# Altium integrated library Sunridge RF Coaxial.IntLib: 2 symbols
Pins are listed as number, name and electrical type; pins without a type are passive.

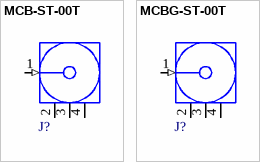
[diagram p0: symbols MCB-ST-00T to MCBG-ST-00T]

## MCB-ST-00T
designator J?
SMB Ultra Miniature Coaxial Connector, SM, Vertical Socket, 50 Ohm, 2.5/2.0mm Mated Height, Silver Plated; PCB_Layout: Complies with manufacturer's recommendation.; Published: 26-Sep-2008; DatasheetVersion: Mar-2008; PackageVersion: Mar-2008; PackageReference: MCB-ST-00T; Publisher: Altium Limited; PackageDescription: Connector; RF Coaxial, MCB SM Receptacle; 4 Position; Vertical, Body 3.1mm x 3.0 x 1.3 mm (LxWxH); ComponentLink1Description: Manufacturer Link; ComponentLink1URL: http://www.sunridgecorp.com/; ComponentLink2Description: Datasheet; ComponentLink2URL: http://www.sunridgecorp.com/pdf/MCBseries.pdf
footprint MCB-ST-00T (Connector; RF Coaxial, MCB SM; 4 Position; Vertical, Body 3.1x3.0mm (LxW))
signal-integrity model RF Coaxial
pins: 1 Signal (in) "Signal Pin", 2 GND (power), 3 GND (power), 4 GND (power)

## MCBG-ST-00T
designator J?
SMB Ultra Miniature Coaxial Connector, SM, Vertical Socket, 50 Ohm, 2.5/2.0mm Mated Height, Gold Plated; PCB_Layout: Complies with manufacturer's recommendation.; Published: 26-Sep-2008; DatasheetVersion: Mar-2008; PackageVersion: Mar-2008; PackageReference: MCB-ST-00T; Publisher: Altium Limited; PackageDescription: Connector; RF Coaxial, MCB SM Receptacle; 4 Position; Vertical, Body 3.1mm x 3.0 x 1.3 mm (LxWxH); ComponentLink1Description: Manufacturer Link; ComponentLink1URL: http://www.sunridgecorp.com/; ComponentLink2Description: Datasheet; ComponentLink2URL: http://www.sunridgecorp.com/pdf/MCBseries.pdf
footprint MCB-ST-00T (Connector; RF Coaxial, MCB SM; 4 Position; Vertical, Body 3.1x3.0mm (LxW))
signal-integrity model RF Coaxial
pins: 1 Signal (in) "Signal Pin", 2 GND (power), 3 GND (power), 4 GND (power)